# EAGLE library part CNRP105A (library SOARRSO_CubeSat_OBC_Library)
Micro-USB 90deg Amphenol 10103594-0001LF
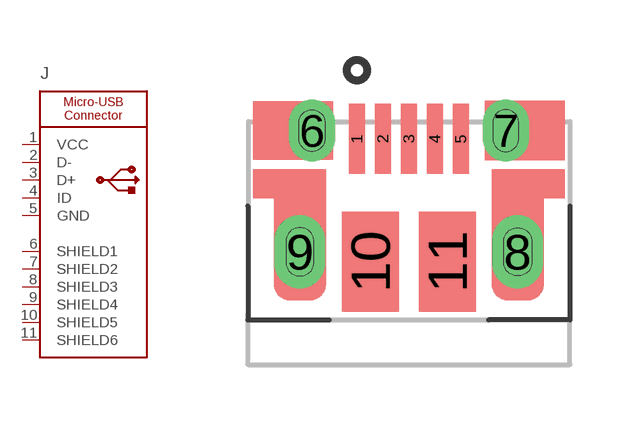
[diagram p1: symbol with the pads of CON_MICRO_USB_FEMALE; footprint CON_MICRO_USB_FEMALE]

Designator prefix J

## CNRP105A_MICRO-USB_90DEG (TYPE: MICRO-USB)  [CON_MICRO_USB_FEMALE]
1  VCC  pwr
2  D-
3  D+
4  ID
5  GND  pwr
6  SHIELD1  sup
7  SHIELD2  sup
8  SHIELD3  sup
9  SHIELD4  sup
10  SHIELD5  sup
11  SHIELD6  sup

## Footprint CON_MICRO_USB_FEMALE (pad centres in mm)
smd 0.4 x 1.75: 1 -1.3,2.825; 2 -0.65,2.825; 3 0,2.825; 4 0.65,2.825; 5 1.3,2.825
drill 0.66 pad 1.016 slot 1.05 rotated 90: 6 -2.425,3.03; 7 2.425,3.03
drill 0.7 pad 1.27 slot 1.27 rotated 90: 8 2.725,0; 9 -2.725,0
smd 1.425 x 2.5: 10 -0.963,-0.25; 11 0.963,-0.25